# Altium footprint library PCB - DIODES - TOSHIBA CUS08F30.PCBLIB: 1 footprints
Each footprint in its own frame and in the unit in brackets; x right, y up, seen from the top. Pads: shape width x height; smd on the part's side, far side on the other; paste and mask are expansions set on the pad; w line width, h text height; cw(c..) or ccw(c..) is an arc to the next point about the centre after c.
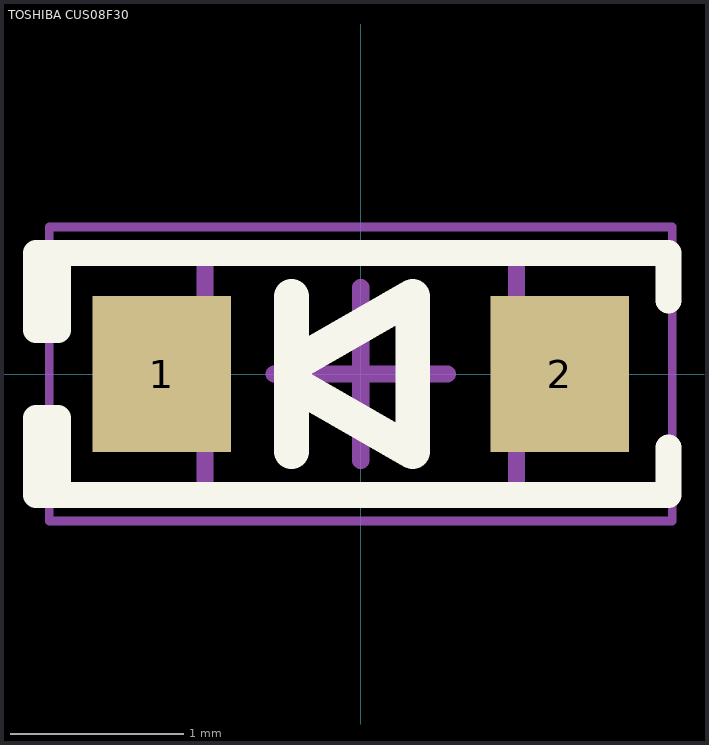
[diagram p0: the footprint, top view; thin cyan lines are the x and y axes]

## TOSHIBA CUS08F30 [mm] "SOD, 2-Leads, Body 1.25x2.50mm"
height 1
pads (2):
  rect 0.8x0.9 smd: 1(-1.15,0) 2(1.15,0)
Top Overlay:
  lines w0.15: -1.751,-0.673 -1.751,-0.254 -1.878,-0.254 -1.878,-0.7 1.778,-0.7 1.778,-0.425 ; -1.751,0.673 -1.751,0.254 -1.878,0.254 -1.878,0.7 1.778,0.7 1.778,0.425
  lines w0.2: -0.4,-0.45 -0.4,0.45 ; -0.4,-0.05 0.3,-0.45 0.3,0.45 -0.4,0.05
Mechanical 13:
  lines w0.1: -0.9,-0.675 -0.9,0.675 0.9,0.675 0.9,-0.675 -0.9,-0.675
Mechanical 15:
  lines w0.05: -1.8,-0.85 -1.8,0.85 1.8,0.85 1.8,-0.85 -1.8,-0.85
  lines w0.1: -0.5,0 0.5,0 ; 0,-0.5 0,0.5
3D body "SOD-323.step": height 1.05, standoff 0, extent -1.361,-0.625 1.36,0.625